# Altium schematic symbol library USB SMD.SchLib: 2 symbols
Pins are listed as number, name and electrical type; pins without a type are passive.

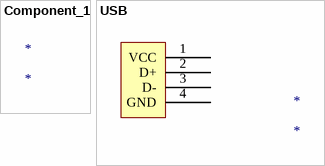
[diagram p0: symbols Component_1 to USB]

## Component_1
designator *

## USB
designator *
footprint PSON50P250X100-10N (PSON, 10-Leads, Body 3,50x2,50mm, Pitch 0,50mm, IPC Medium Density)
pins: 1 VCC, 2 D+, 3 D-, 4 GND